# Altium schematic symbol library TPS5432.SchLib: 1 symbol
Pins are listed as number, name and electrical type; pins without a type are passive.

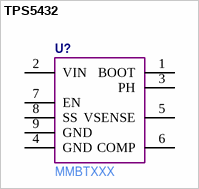
[diagram p0: symbol TPS5432]

## TPS5432
designator U?  Manufacturer Part Number: MMBTXXX  (hidden comment: *)
pins: 1 BOOT, 2 VIN, 3 PH, 4 GND, 5 VSENSE, 6 COMP, 7 EN, 8 SS, 9 GND